# Altium schematic symbol library ADuM1201.SchLib: 1 symbol
Pins are listed as number, name and electrical type; pins without a type are passive.

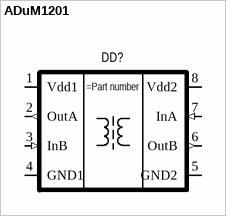
[diagram p0: symbol ADuM1201]

## ADuM1201
designator DD?
Dual-Channel Digital Isolator
pins: 1 Vdd1 (power), 2 OutA (out), 3 InB (in), 4 GND1 (power), 5 GND2 (power), 6 OutB (out), 7 InA (in), 8 Vdd2 (power)